# Altium schematic symbol library ic-amplifier.SchLib: 16 symbols
Pins are listed as number, name and electrical type; pins without a type are passive.

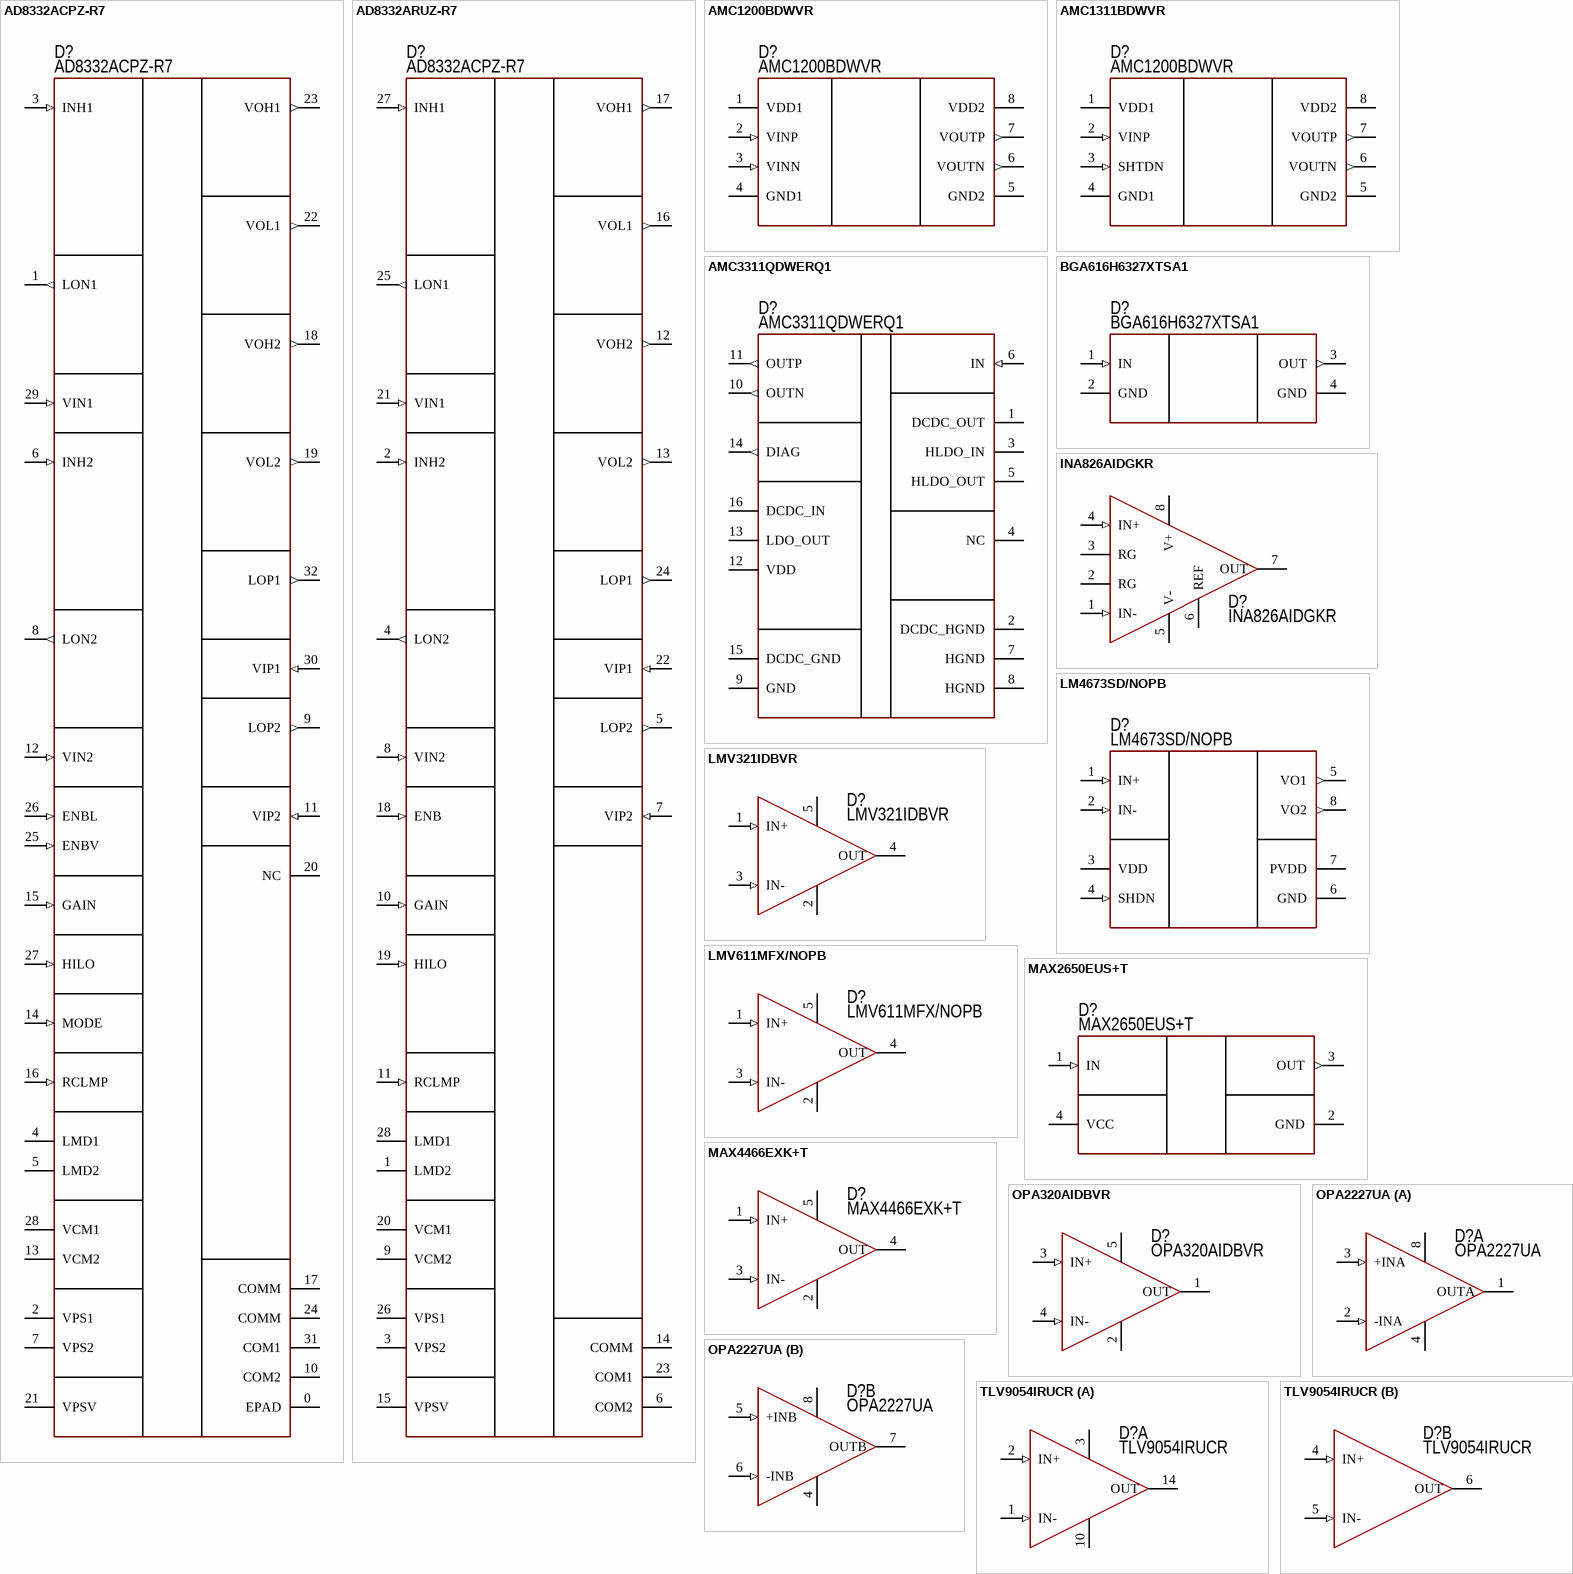
[diagram p0: symbols AD8332ACPZ-R7 to TLV9054IRUCR]

## AD8332ACPZ-R7
designator D?  PartNumber: AD8332ACPZ-R7
VGA; Manufacturer: Analog Devices; ValueManufacturerPartNumber: IC LNA, 100MHz, −4.5...+43.5dB, -40...+85°C, 32-LFCSP; Gain: −4.5...+43.5dB; Frequency: 100MHz; HelpURL: https://www.analog.com/media/en/technical-documentation/data-sheets/AD8331_8332_8334.pdf; Package: 32-LFCSP; ComponentType: IC LNA; Temperature: -40...+85°C
footprint 32-LFCSP (5x5 mm, pitch 0.5 mm, power pad)
pins: 0 EPAD, 1 LON1 (out), 2 VPS1 (power), 3 INH1 (in), 4 LMD1, 5 LMD2, 6 INH2 (in), 7 VPS2 (power), 8 LON2 (out), 9 LOP2 (out), 10 COM2 (power), 11 VIP2 (in), 12 VIN2 (in), 13 VCM2, 14 MODE (in), 15 GAIN (in), 16 RCLMP (in), 17 COMM (power), 18 VOH2 (out), 19 VOL2 (out), 20 NC, 21 VPSV (power), 22 VOL1 (out), 23 VOH1 (out), 24 COMM (power), 25 ENBV (in), 26 ENBL (in), 27 HILO (in), 28 VCM1, 29 VIN1 (in), 30 VIP1 (in), 31 COM1 (power), 32 LOP1 (out)

## AD8332ARUZ-R7
designator D?  PartNumber: AD8332ACPZ-R7
VGA; Manufacturer: Analog Devices; ValueManufacturerPartNumber: IC LNA, 100MHz, −4.5...+43.5dB, -40...+85°C, 32-TSSOP; Gain: −4.5...+43.5dB; Frequency: 100MHz; HelpURL: https://www.analog.com/media/en/technical-documentation/data-sheets/AD8331_8332_8334.pdf; Package: 32-TSSOP; ComponentType: IC LNA; Temperature: -40...+85°C
footprint 28-TSSOP (pitch 0.65 mm)
pins: 1 LMD2, 2 INH2 (in), 3 VPS2 (power), 4 LON2 (out), 5 LOP2 (out), 6 COM2 (power), 7 VIP2 (in), 8 VIN2 (in), 9 VCM2, 10 GAIN (in), 11 RCLMP (in), 12 VOH2 (out), 13 VOL2 (out), 14 COMM (power), 15 VPSV (power), 16 VOL1 (out), 17 VOH1 (out), 18 ENB (in), 19 HILO (in), 20 VCM1, 21 VIN1 (in), 22 VIP1 (in), 23 COM1 (power), 24 LOP1 (out), 25 LON1 (out), 26 VPS1 (power), 27 INH1 (in), 28 LMD1

## AMC1200BDWVR
designator D?  PartNumber: AMC1200BDWVR
Isolator amplifier; Manufacturer: Texas Instruments; ValueManufacturerPartNumber: IC isolator amplifier, Differential, 100 kHz, 2.7...5.5V, -40...+105°C, 8-SOIC; Supply: 2.7...5.5V; OutputType: Differential; GainBandwidth: 100 kHz; HelpURL: https://www.digikey.com/product-detail/en/texas-instruments/AMC1200BDWVR/296-39898-1-ND/5177775; Package: 8-SOIC; ComponentType: IC isolator amplifier; Temperature: -40...+105°C
footprint 8-SOIC-W (pitch 1.27 mm, isolator)
pins: 1 VDD1 (power), 2 VINP (in), 3 VINN (in), 4 GND1 (power), 5 GND2 (power), 6 VOUTN (out), 7 VOUTP (out), 8 VDD2 (power)

## AMC1311BDWVR
designator D?  PartNumber: AMC1200BDWVR
Isolator amplifier; Manufacturer: Texas Instruments; ValueManufacturerPartNumber: IC isolator amplifier, Differential, 275 kHz, 3...5.5V, -55...+125°C, 8-SOIC; Supply: 3...5.5V; OutputType: Differential; GainBandwidth: 275 kHz; HelpURL: https://www.ti.com/lit/ds/symlink/amc1311.pdf?HQS=dis-mous-null-mousermode-dsf-pf-null-wwe&ts=1698960644743&ref_url=https%253A%252F%252Fno.mouser.com%252F; Package: 8-SOIC; ComponentType: IC isolator amplifier; Temperature: -55...+125°C
footprint 8-SOIC-W (pitch 1.27 mm, isolator)
pins: 1 VDD1 (power), 2 VINP (in), 3 SHTDN (in), 4 GND1 (power), 5 GND2 (power), 6 VOUTN (out), 7 VOUTP (out), 8 VDD2 (power)

## AMC3311QDWERQ1
designator D?  PartNumber: AMC3311QDWERQ1
Isolator amplifier with DC-DC; Manufacturer: Texas Instruments; ValueManufacturerPartNumber: IC isolator amplifier, Differential, 275 kHz, 3...5.5V, -40...+125°C, 16-SOIC; Supply: 3...5.5V; OutputType: Differential; GainBandwidth: 275 kHz; HelpURL: https://www.ti.com/lit/ds/symlink/amc3311-q1.pdf?ts=1727699385674&ref_url=https%253A%252F%252Fwww.ti.com%252Fproduct%252FAMC3311-Q1; Package: 16-SOIC; ComponentType: IC isolator amplifier; Temperature: -40...+125°C
footprint 16-SOIC (ISOLATION) (pitch 1.27 mm)
pins: 1 DCDC_OUT (power), 2 DCDC_HGND (power), 3 HLDO_IN (power), 4 NC, 5 HLDO_OUT (power), 6 IN (in), 7 HGND (power), 8 HGND (power), 9 GND (power), 10 OUTN (out), 11 OUTP (out), 12 VDD (power), 13 LDO_OUT (power), 14 DIAG (out), 15 DCDC_GND (power), 16 DCDC_IN (power)

## BGA616H6327XTSA1
designator D?  PartNumber: BGA616H6327XTSA1
RF amplifier; Manufacturer: Texas Instruments; ValueManufacturerPartNumber: IC RF amplifier, 2.7 GHz, 19dB, -40...+125°C, SOT23-5; Gain: 19dB; Frequency: 2.7 GHz; HelpURL: https://www.digikey.com/product-detail/en/infineon-technologies/BGA616H6327XTSA1/BGA616H6327XTSA1CT-ND/2410159; Package: SOT23-5; ComponentType: IC RF amplifier; Temperature: -40...+125°C
footprint SOT343
pins: 1 IN (in), 2 GND, 3 OUT (out), 4 GND

## INA826AIDGKR
designator D?  PartNumber: INA826AIDGKR
OP amplifier; Manufacturer: Texas Instruments; ValueManufacturerPartNumber: Instrumentation, Rail-to-Rail, 1 MHz, 3...36V, -40...+125°C, VSSOP; Supply: 3...36V; OutputType: Rail-to-Rail; GainBandwidth: 1 MHz; HelpURL: https://www.digikey.com/product-detail/en/texas-instruments/LMV321IDBVR/296-9567-1-ND/379849; Package: VSSOP; ComponentType: Instrumentation; Temperature: -40...+125°C
footprint 8-VSSOP
pins: 1 IN- (in), 2 RG, 3 RG, 4 IN+ (in), 5 V-, 6 REF, 7 OUT (power), 8 V+

## LM4673SD/NOPB
designator D?  PartNumber: LM4673SD/NOPB
Audio amplifier; Manufacturer: Texas Instruments; ValueManufacturerPartNumber: IC audio amplifier, Class D, 2.65W, 2.4...5.5V, -40...+85°C, 8-WSON; Supply: 2.4...5.5V; OutputType: Class D; OutputPower: 2.65W; HelpURL: https://www.digikey.com/product-detail/en/texas-instruments/LM4673SD-NOPB/LM4673SD-NOPBCT-ND/1207555; Package: 8-WSON; ComponentType: IC audio amplifier; Temperature: -40...+85°C
footprint 8-WSON (3x3) (3x3 mm, pitch 0.5 mm, power pad)
pins: 1 IN+ (in), 2 IN- (in), 3 VDD, 4 SHDN (in), 5 VO1 (out), 6 GND, 7 PVDD, 8 VO2 (out)

## LMV321IDBVR
designator D?  PartNumber: LMV321IDBVR
OP amplifier; Manufacturer: Texas Instruments; ValueManufacturerPartNumber: IC op amplifier, Rail-to-Rail, 1 MHz, 2.7...5.5V, -40...+125°C, SOT23-5; Supply: 2.7...5.5V; OutputType: Rail-to-Rail; GainBandwidth: 1 MHz; HelpURL: https://www.digikey.com/product-detail/en/texas-instruments/LMV321IDBVR/296-9567-1-ND/379849; Package: SOT23-5; ComponentType: IC op amplifier; Temperature: -40...+125°C
footprint SOT23-5 (pitch 0.95 mm)
pins: 1 IN+ (in), 2 V- (power), 3 IN- (in), 4 OUT (power), 5 V+ (power)

## LMV611MFX/NOPB
designator D?  PartNumber: LMV611MFX/NOPB
OP amplifier; Manufacturer: Texas Instruments; ValueManufacturerPartNumber: IC op amplifier, Rail-to-Rail, 1.5 MHz, 1.8...5.5V, -40...+125°C, SOT23-5; Supply: 1.8...5.5V; OutputType: Rail-to-Rail; GainBandwidth: 1.5 MHz; HelpURL: https://www.digikey.com/product-detail/en/texas-instruments/LMV611MFX-NOPB/296-47209-1-ND/7688219; Package: SOT23-5; ComponentType: IC op amplifier; Temperature: -40...+125°C
footprint SOT23-5 (pitch 0.95 mm)
pins: 1 IN+ (in), 2 V- (power), 3 IN- (in), 4 OUT (power), 5 V+ (power)

## MAX2650EUS+T
designator D?  PartNumber: MAX2650EUS+T
LNA,  DC-to-Microwave; Manufacturer: Maxim Integrated; ValueManufacturerPartNumber: IC LNA, 0...1GHz, 18.3dB, -40...+85°C, SOT-143-4; Gain: 18.3dB; Frequency: 0...1GHz; HelpURL: https://www.mouser.ee/datasheet/2/256/MAX2650-1515556.pdf; Package: SOT-143-4; ComponentType: IC LNA; Temperature: -40...+85°C
footprint SOT143-4
pins: 1 IN (in), 2 GND (power), 3 OUT (out), 4 VCC (power)

## MAX4466EXK+T
designator D?  PartNumber: MAX4466EXK+T
Microphone amplifier; Manufacturer: Maxim Integrated; ValueManufacturerPartNumber: IC microphone amplifier, Class AB, 20dB, 2.4...5.5V, -40...+85°C, SC70-5; Supply: 2.4...5.5V; OutputType: Class AB; Gain: 20dB; HelpURL: https://www.digikey.com/product-detail/en/maxim-integrated/MAX4466EXK-T/MAX4466EXK-CT-ND/5405773; Package: SC70-5; ComponentType: IC microphone amplifier; Temperature: -40...+85°C
footprint SC70-5 (pitch 0.95 mm)
pins: 1 IN+ (in), 2 V- (power), 3 IN- (in), 4 OUT (power), 5 V+ (power)

## OPA320AIDBVR
designator D?  PartNumber: OPA320AIDBVR
OP amplifier; Manufacturer: Texas Instruments; ValueManufacturerPartNumber: IC op amplifier, Rail-to-Rail, 20 MHz, 1.8...5.5V, -40...+125°C, SOT23-5; Supply: 1.8...5.5V; OutputType: Rail-to-Rail; GainBandwidth: 20 MHz; HelpURL: https://www.digikey.com/product-detail/en/texas-instruments/OPA320AIDBVR/296-29480-1-ND/2747411; Package: SOT23-5; ComponentType: IC op amplifier; Temperature: -40...+125°C
footprint SOT23-5 (pitch 0.95 mm)
pins: 1 OUT (power), 2 V- (power), 3 IN+ (in), 4 IN- (in), 5 V+ (power)

## OPA2227UA
designator D?  PartNumber: OPA2227UA
OP amplifier; Manufacturer: Texas Instruments; ValueManufacturerPartNumber: IC op amplifier, Rail-to-Rail, 8 MHz, 5...36V, -40...+85°C, SOIC-8; Supply: 5...36V; OutputType: Rail-to-Rail; GainBandwidth: 8 MHz; HelpURL: https://www.digikey.com/en/products/detail/texas-instruments/OPA2227UA/295554; Package: SOIC-8; ComponentType: IC op amplifier; Temperature: -40...+85°C
footprint 8-SOIC (pitch 1.27 mm)
part A pins: 1 OUTA (power), 2 -INA (in), 3 +INA (in), 4 V- (power), 8 V+ (power)
part B pins: 4 V- (power), 5 +INB (in), 6 -INB (in), 7 OUTB (power), 8 V+ (power)

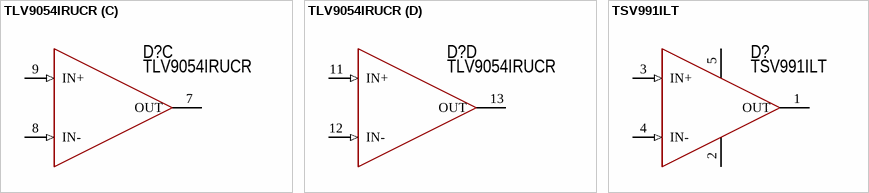
[diagram p1: symbols TLV9054IRUCR to TSV991ILT]

## TLV9054IRUCR
designator D?  PartNumber: TLV9054IRUCR
OP amplifier; Manufacturer: Texas Instruments; ValueManufacturerPartNumber: IC op amplifier, Rail-to-Rail, 5 MHz, 1.8...5.5V, -40...+125°C, QFN-14; Supply: 1.8...5.5V; OutputType: Rail-to-Rail; GainBandwidth: 5 MHz; HelpURL: https://www.ti.com/lit/ds/symlink/tlv9051.pdf?HQS=dis-mous-null-mousermode-dsf-pf-null-wwe&ts=1698048853007&ref_url=https%253A%252F%252Fwww.mouser.de%252F; Package: QFN-14; ComponentType: IC op amplifier; Temperature: -40...+125°C
footprint 14-X2QFN (2x2x0.4)
part A pins: 1 IN- (in), 2 IN+ (in), 3 V+ (power), 10 V- (power), 14 OUT (power)
part B pins: 4 IN+ (in), 5 IN- (in), 6 OUT (power)
part C pins: 7 OUT (power), 8 IN- (in), 9 IN+ (in)
part D pins: 11 IN+ (in), 12 IN- (in), 13 OUT (power)

## TSV991ILT
designator D?  PartNumber: TSV991ILT
OP amplifier; Manufacturer: STMicroelectronics; ValueManufacturerPartNumber: IC op amplifier, Rail-to-Rail, 20 MHz, 2.7...5.5V, -40...+125°C, SOT23-5; Supply: 2.7...5.5V; OutputType: Rail-to-Rail; GainBandwidth: 20 MHz; HelpURL: https://www.digikey.com/product-detail/en/stmicroelectronics/TSV991ILT/497-6001-1-ND/1578484; Package: SOT23-5; ComponentType: IC op amplifier; Temperature: -40...+125°C
footprint SOT23-5 (pitch 0.95 mm)
pins: 1 OUT (power), 2 V- (power), 3 IN+ (in), 4 IN- (in), 5 V+ (power)